# Altium footprint library REG_3.3V_SOT_25.PcbLib: 1 footprints
Each footprint in its own frame and in the unit in brackets; x right, y up, seen from the top. Pads: shape width x height; smd on the part's side, far side on the other; paste and mask are expansions set on the pad; w line width, h text height; cw(c..) or ccw(c..) is an arc to the next point about the centre after c.
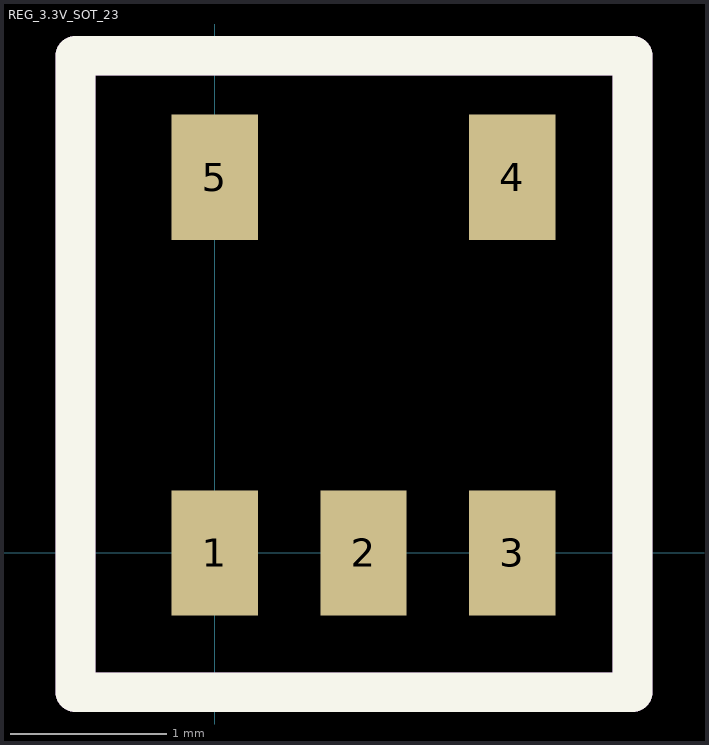
[diagram p0: the footprint, top view; thin cyan lines are the x and y axes]

## REG_3.3V_SOT_23 [mm]
pads (5):
  rect 0.55x0.8 smd: 1(0,0) 2(0.95,0) 3(1.9,0) 4(1.9,2.4) 5(0,2.4)
Top Overlay:
  lines w0.254: -0.889,-0.889 2.667,-0.889 2.667,3.175 -0.889,3.175 -0.889,-0.889
Mechanical 1:
  lines w0.254: -0.889,-0.889 2.667,-0.889 2.667,3.175 -0.889,3.175 -0.889,-0.889
  text ".Designator" at -0.324,1.143 h0.54
3D body "REG_3.3V_SOT_25.stp": height 1.1, standoff -0.05, extent -0.56,-0.181 2.44,2.619